# EAGLE library part LTC4360-2 (library quentin)
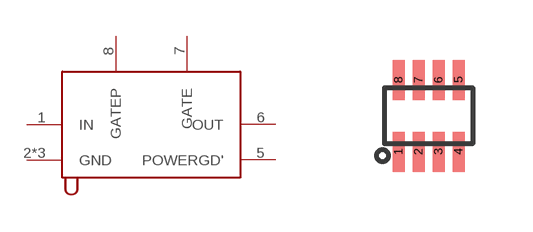
[diagram p23: symbol with the pads of SC8; footprint SC8]

Designator prefix -

## LTC4360-2  [SC8]
1  IN
2  GND
3  GND
4  GND
5  POWERGD'
6  OUT
7  GATE
8  GATEP

## Footprint SC8 (pad centres in mm)
smd 0.3 x 1: 1 0,0; 2 0.5,0; 3 1,0; 4 1.5,0; 5 1.5,1.8; 6 1,1.8; 7 0.5,1.8; 8 0,1.8